# Altium footprint library RB1.PcbLib: 21 footprints (part 2 of 2)
Each footprint in its own frame and in the unit in brackets; x right, y up, seen from the top. Pads: shape width x height; smd on the part's side, far side on the other; paste and mask are expansions set on the pad; w line width, h text height; cw(c..) or ccw(c..) is an arc to the next point about the centre after c.
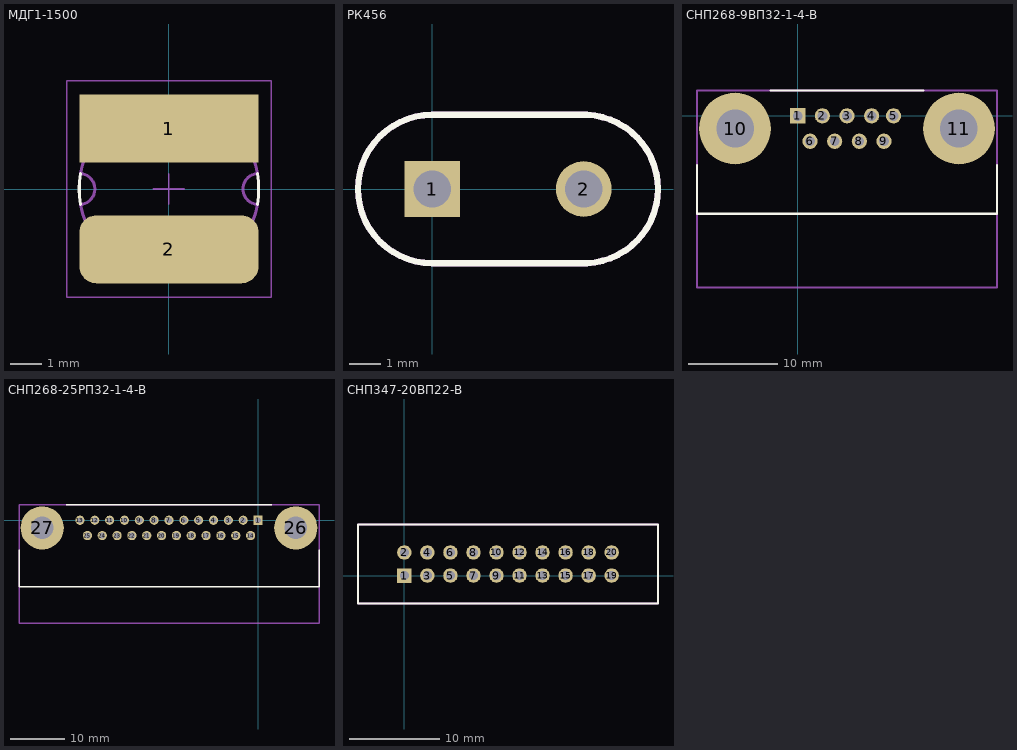
[diagram p1: the footprints below, top view; thin cyan lines are the x and y axes]

## МДГ1-1500 [mm]
pads (2):
  rect 5.8x2.2 smd: 1(0,1.95)
  rrect50% 5.8x2.2 smd: 2(0,-1.95)
Top Overlay:
  lines w0.1: -2.856,-0.504 cw(c0,0) -2.856,0.504 ; 2.856,-0.504 ccw(c0,0) 2.856,0.504
Mechanical 13:
  lines w0.1: -2.856,-0.503 ccw(c0,0) 2.856,-0.504 cw(c2.9,0) 2.856,0.504 ccw(c0,0) -2.856,0.503 ; -2.801,-0.494 ccw(c-2.9,0) -2.802,0.494
Mechanical 15:
  lines w0.05: -0.5,0 0.5,0 ; 0,-0.5 0,0.5 ; -3.3,-3.5 -3.3,3.5 3.3,3.5 3.3,-3.5 -3.3,-3.5

## РК456 [mm]
pads (2):
  rect 1.8x1.8 hole 1.2: 1(0,0)
  round 1.8 hole 1.2: 2(4.9,0)
Top Overlay:
  lines w0.2: 0,-2.4 cw(c0,0) 0,2.4 5,2.4 cw(c4.9,0) 5,-2.4 0,-2.4
Mechanical 13:
  lines w0.2: 0,-2.4 cw(c0,0) 0,2.4 5,2.4 cw(c4.9,0) 5,-2.4 0,-2.4

## СНП268-9ВП32-1-4-В [mm]
pads (11):
  rect 1.7x1.7 hole 1.1: 1(0,0)
  round 1.7 hole 1.1: 2(2.75,0) 3(5.5,0) 4(8.25,0) 5(10.7,0) 6(1.375,-2.84) 7(4.125,-2.84) 8(6.875,-2.84) 9(9.625,-2.84)
  round 8 hole 4.2: 10(-7,-1.42) 11(18,-1.42)
Top Overlay:
  lines w0.254: -11.25,-5.5 -11.25,-10.94 22.25,-10.94 22.25,-5.5 ; -3,2.83 14,2.83
Mechanical 13:
  lines w0.254: -11.25,-19.17 -11.25,2.83 22.25,2.83 22.25,-19.17 -11.25,-19.17

## СНП268-25РП32-1-4-В [mm]
pads (27):
  rect 1.7x1.7 hole 1.1: 1(0,0)
  round 1.7 hole 1.1: 2(-2.75,0) 3(-5.5,0) 4(-8.25,0) 5(-11,0) 6(-13.75,0) 7(-16.5,0) 8(-19.25,0) 9(-22,0) 10(-24.75,0) 11(-27.5,0) 12(-30.25,0) 13(-33,0) 14(-1.375,-2.84) 15(-4.125,-2.84) 16(-6.875,-2.84) 17(-9.625,-2.84) 18(-12.375,-2.84) 19(-15.125,-2.84) 20(-17.875,-2.84) 21(-20.625,-2.84) 22(-23.375,-2.84) 23(-26.125,-2.84) 24(-28.875,-2.84) 25(-31.625,-2.84)
  round 8 hole 4.2: 26(7,-1.42) 27(-40,-1.42)
Top Overlay:
  lines w0.254: -44.3,-5.5 -44.3,-12.34 -37.865,-12.34 11.3,-12.34 11.3,-5.5 ; -35.5,2.9 2.5,2.9
Mechanical 13:
  lines w0.254: -44.3,-19.12 11.3,-19.12 11.3,2.88 -44.3,2.88 -44.3,-19.12

## СНП347-20ВП22-В [mm]
pads (20):
  rect 1.6x1.6 hole 1.02: 1(0,0)
  round 1.6 hole 1.02: 2(0,2.54) 3(2.54,0) 4(2.54,2.54) 5(5.08,0) 6(5.08,2.54) 7(7.62,0) 8(7.62,2.54) 9(10.16,0) 10(10.16,2.54) 11(12.7,0) 12(12.7,2.54) 13(15.24,0) 14(15.24,2.54) 15(17.78,0) 16(17.78,2.54) 17(20.32,0) 18(20.32,2.54) 19(22.86,0) 20(22.86,2.54)
Top Overlay:
  lines w0.254: -5.12,-3.08 -5.12,5.62 27.98,5.62 27.98,-3.08 -5.12,-3.08
Mechanical 13:
  lines w0.254: -5.12,-3.08 -5.12,5.62 27.98,5.62 27.98,-3.08 -5.12,-3.08